# Altium schematic symbol library TI_TPS61299DRLR.SchLib: 1 symbol
Pins are listed as number, name and electrical type; pins without a type are passive.

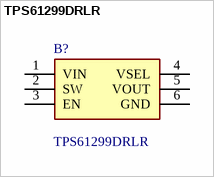
[diagram p0: symbol TPS61299DRLR]

## TPS61299DRLR
designator B?
Switching Voltage Regulators 95nA quiescent current, 5.5V boost converter with input current limit and fast transient performance; Manufacturer_Name: Texas Instruments; Geometry.Height: 0.6mm; Mouser Part Number: 595-TPS61299DRLR; Mouser Price/Stock: https://www.mouser.co.uk/ProductDetail/Texas-Instruments/TPS61299DRLR?qs=IKkN%2F947nfBTwsVxPXoKBw%3D%3D; Manufacturer_Part_Number: TPS61299DRLR; Datasheet Link: https://www.ti.com/lit/ds/symlink/tps61299.pdf?ts=1731385304163
footprint SOTFL50P160X60-6N
pins: 1 VIN, 2 SW, 3 EN, 4 VSEL, 5 VOUT, 6 GND